# Altium footprint library SMD-3225-4P.PcbLib: 1 footprints
Each footprint in its own frame and in the unit in brackets; x right, y up, seen from the top. Pads: shape width x height; smd on the part's side, far side on the other; paste and mask are expansions set on the pad; w line width, h text height; cw(c..) or ccw(c..) is an arc to the next point about the centre after c.
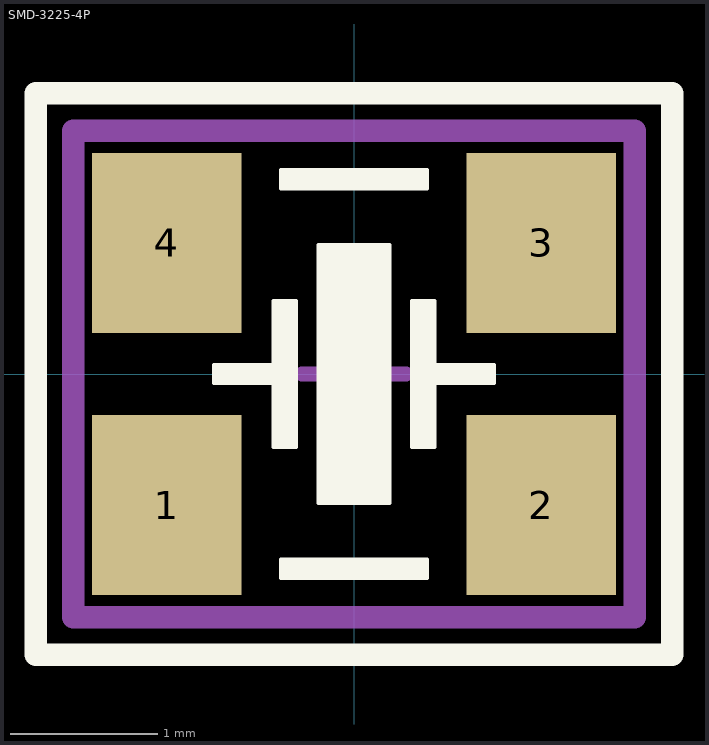
[diagram p0: the footprint, top view; thin cyan lines are the x and y axes]

## SMD-3225-4P [mil]
pads (4):
  rect 40x48 smd: 1(-50,-35) 2(50,-35) 3(50,35) 4(-50,35)
Top Overlay:
  region: -19.5,54.5 19.5,54.5 19.5,49.5 -19.5,49.5
  region: -9.5,34.5 9.5,34.5 9.5,-34.5 -9.5,-34.5
  region: -21.5,19.5 -15.5,19.5 -15.5,-19.5 -21.5,-19.5 -21.5,-2.5 -37.5,-2.5 -37.5,2.5 -21.5,2.5
  region: 21.5,-19.5 15.5,-19.5 15.5,19.5 21.5,19.5 21.5,2.5 37.5,2.5 37.5,-2.5 21.5,-2.5
  region: 19.5,-54.5 -19.5,-54.5 -19.5,-49.5 19.5,-49.5
  lines w1: -37.5,-2.5 -21.5,-2.5 -21.5,-19.5 -15.5,-19.5 -15.5,19.5 -21.5,19.5 -21.5,2.5 -37.5,2.5 -37.5,-2.5 ; -19.5,-54.5 19.5,-54.5 19.5,-49.5 -19.5,-49.5 -19.5,-54.5 ; -19.5,49.5 19.5,49.5 19.5,54.5 -19.5,54.5 -19.5,49.5 ; -9.5,-34.5 -9.5,34.5 9.5,34.5 9.5,-34.5 -9.5,-34.5 ; 15.5,-19.5 21.5,-19.5 21.5,-2.5 37.5,-2.5 37.5,2.5 21.5,2.5 21.5,19.5 15.5,19.5 15.5,-19.5
  lines w6: -85,-75 -85,75 85,75 85,-75 -85,-75
Top Designator:
  text ".Designator" at -299.9,-15.99 h60
Bottom 3D Body:
  lines w2: -75,-64 75,-64 75,64 -75,64 -75,-64
Top Courtyard:
  lines w6: -75,-65 -75,65 75,65 75,-65 -75,-65
Top Component Center:
  lines w3.94: -13.88,0 13.88,0 ; 0,-13.88 0,13.88
3D body "User Library-SG310.STEP": height 41.34, standoff 0, extent -62.98,-49.21 63,49.21